# Altium footprint library Inductors THD.PcbLib: 25 footprints (part 3 of 3)
Each footprint in its own frame and in the unit in brackets; x right, y up, seen from the top. Pads: shape width x height; smd on the part's side, far side on the other; paste and mask are expansions set on the pad; w line width, h text height; cw(c..) or ccw(c..) is an arc to the next point about the centre after c.
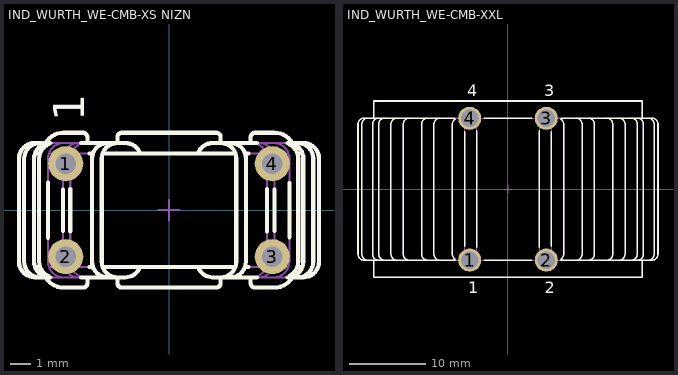
[diagram p2: the footprints below, top view; thin cyan lines are the x and y axes]

## IND_WURTH_WE-CMB-XS NIZN [mm] "WURTH Common Mode Choke WE-CMB XS Series"
height 18
pads (4):
  round 1.7 hole 1: 1(-5,2.25) 2(-5,-2.25) 3(5,-2.25) 4(5,2.25)
Top Overlay:
  lines w0.2: -6.487,-2.75 -6.244,-2.75 ; -6.487,2.75 -6.244,2.75 ; -6.26,-3.25 cw(c-6.26,-2.5) -7.01,-2.5 -7.01,2.5 cw(c-6.26,2.5) -6.26,3.25 ; -5.854,-1.338 -5.854,1.338 ; -5.817,-3.196 cw(c-5.537,-2.5) -6.287,-2.5 -6.287,2.5 cw(c-5.537,2.5) -5.817,3.196 ; -5.78,-3.25 cw(c-5.78,-2.5) -6.53,-2.5 -6.53,2.5 cw(c-5.78,2.5) -5.78,3.25 ; -5.75,-3.25 -6.51,-3.25 ; -5.75,3.25 -6.51,3.25 ; -5.134,-1.007 -5.134,1.007 ; -4.78,-1.02 -4.78,1.02 ; -4.25,-3.25 -2.113,-3.25 ccw(c-2.113,-2.5) -1.406,-2.75 ; -4.25,3.25 -2.109,3.25 cw(c-2.109,2.5) -1.402,2.75 ; -3.95,3.25 -3.95,3.525 ccw(c-4.175,3.525) -4.175,3.75 -5.1,3.75 ccw(c-5.1,2.75) -5.966,3.25 -6.51,3.25 ; -3.854,-2.75 -3.679,-2.75 ; -3.854,2.75 -3.679,2.75 ; -3.212,-2.75 3.217,-2.75 ; -3.212,2.75 3.217,2.75 ; -2.972,-3.25 cw(c-2.972,-2.5) -3.722,-2.5 -3.722,2.5 cw(c-2.972,2.5) -2.972,3.25 ; -2.505,-3.25 cw(c-2.505,-2.5) -3.255,-2.5 -3.255,2.5 cw(c-2.505,2.5) -2.505,3.25 ; -2.5,3.25 -2.5,3.525 cw(c-2.275,3.525) -2.275,3.75 2.275,3.75 cw(c2.275,3.525) 2.5,3.525 2.5,3.25 3.95,3.25 3.95,3.525 cw(c4.175,3.525) 4.175,3.75 5.1,3.75 cw(c5.1,2.75) 5.966,3.25 6.51,3.25 ; 1.406,-2.75 ccw(c2.113,-2.5) 2.113,-3.25 4.25,-3.25 ; 1.406,2.75 cw(c2.113,2.5) 2.113,3.25 4.25,3.25 ; 2.505,-3.25 ccw(c2.505,-2.5) 3.255,-2.5 3.255,2.5 ; 2.509,3.25 cw(c2.509,2.5) 3.259,2.499 ; 2.972,-3.25 ccw(c2.972,-2.5) 3.722,-2.5 3.722,2.5 ; 2.976,3.25 cw(c2.976,2.5) 3.726,2.499 ; 3.683,-2.75 3.854,-2.75 ; 3.683,2.75 3.854,2.75 ; 4.75,-1.025 4.75,1.025 ; 5.103,-1.004 5.103,1.004 ; 5.749,-3.25 ccw(c5.749,-2.5) 6.499,-2.5 6.499,2.5 ; 5.75,-3.25 6.51,-3.25 ; 5.75,3.25 6.51,3.25 ; 5.754,3.25 cw(c5.754,2.5) 6.504,2.499 ; 5.824,-1.31 5.824,1.31 ; 5.843,3.173 cw(c5.512,2.5) 6.262,2.499 ; 5.849,-3.168 ccw(c5.507,-2.5) 6.257,-2.5 6.257,2.5 ; 6.219,-2.75 6.461,-2.75 ; 6.219,2.75 6.461,2.75 ; 6.23,-3.25 ccw(c6.23,-2.5) 6.98,-2.5 6.98,2.5 ; 6.234,3.25 cw(c6.234,2.5) 6.984,2.499 ; -6.51,-3.25 cw(c-6.51,-2.5) -7.26,-2.5 -7.26,2.5 cw(c-6.51,2.5) -6.51,3.25 ; -6.51,-3.25 -5.966,-3.25 ccw(c-5.1,-2.75) -5.1,-3.75 -4.175,-3.75 ccw(c-4.175,-3.525) -3.95,-3.525 -3.95,-3.25 -2.5,-3.25 -2.5,-3.525 ccw(c-2.275,-3.525) -2.305,-3.748 2.275,-3.75 ccw(c2.275,-3.525) 2.5,-3.525 2.5,-3.25 3.95,-3.25 3.95,-3.525 ccw(c4.175,-3.525) 4.175,-3.75 5.1,-3.75 ccw(c5.1,-2.75) 5.966,-3.25 6.51,-3.25 ; 6.51,-3.25 ccw(c6.51,-2.5) 7.26,-2.5 7.26,2.5 ccw(c6.51,2.5) 6.51,3.25
  text "1" at -4.1,4.3 h1.5
Mechanical 8:
  lines w0.1: -5.5,-2.25 -5,-2.25 ; -5.5,2.25 -5,2.25 ; -5,-2.75 -5,-2.25 ; -5,-1.75 -5,-2.25 ; -5,1.75 -5,2.25 ; -5,2.75 -5,2.25 ; -4.5,-2.25 -5,-2.25 ; -4.5,2.25 -5,2.25 ; -0.5,0 0,0 ; 0,-0.5 0,0 ; 0,0.5 0,0 ; 0.5,0 0,0 ; 4.5,-2.25 5,-2.25 ; 4.5,2.25 5,2.25 ; 5,-2.75 5,-2.25 ; 5,-1.75 5,-2.25 ; 5,1.75 5,2.25 ; 5,2.75 5,2.25 ; 5.5,-2.25 5,-2.25 ; 5.5,2.25 5,2.25
Mechanical 14:
  lines w0.1: -6.487,-2.75 -6.244,-2.75 ; -6.487,2.75 -6.244,2.75 ; -6.26,-3.25 cw(c-6.26,-2.5) -7.01,-2.5 -7.01,2.5 cw(c-6.26,2.5) -6.26,3.25 ; -5.811,-2.75 -5.091,-2.75 ; -5.811,2.75 -5.091,2.75 ; -5.78,-3.25 cw(c-5.78,-2.5) -6.53,-2.5 -6.53,2.5 cw(c-5.78,2.5) -5.78,3.25 ; -5.537,-3.25 cw(c-5.537,-2.5) -6.287,-2.5 -6.287,2.5 cw(c-5.537,2.5) -5.537,3.25 ; -5.104,-3.25 cw(c-5.104,-2.5) -5.854,-2.5 -5.854,2.5 cw(c-5.104,2.5) -5.104,3.25 ; -4.737,-2.75 -3.679,-2.75 ; -4.737,2.75 -3.679,2.75 ; -4.384,-3.25 cw(c-4.384,-2.5) -5.134,-2.5 -5.134,2.5 cw(c-4.384,2.5) -4.384,3.25 ; -4.03,-3.25 cw(c-4.03,-2.5) -4.78,-2.5 -4.78,2.5 cw(c-4.03,2.5) -4.03,3.25 ; -3.95,3.25 -3.95,3.525 ccw(c-4.175,3.525) -4.175,3.75 -5.1,3.75 ccw(c-5.1,2.75) -5.966,3.25 -6.51,3.25 ; -3.212,-2.75 3.217,-2.75 ; -3.212,2.75 3.217,2.75 ; -2.972,-3.25 cw(c-2.972,-2.5) -3.722,-2.5 -3.722,2.5 cw(c-2.972,2.5) -2.972,3.25 ; -2.505,-3.25 cw(c-2.505,-2.5) -3.255,-2.5 -3.255,2.5 cw(c-2.505,2.5) -2.505,3.25 ; -2.5,3.25 -2.5,3.525 cw(c-2.275,3.525) -2.275,3.75 2.275,3.75 cw(c2.275,3.525) 2.5,3.525 2.5,3.25 3.95,3.25 3.95,3.525 cw(c4.175,3.525) 4.175,3.75 5.1,3.75 cw(c5.1,2.75) 5.966,3.25 6.51,3.25 ; -1.406,-2.75 cw(c-2.113,-2.5) -2.113,-3.25 -6.51,-3.25 ; -1.402,2.75 ccw(c-2.109,2.5) -2.109,3.25 -6.51,3.25 ; 1.406,-2.75 ccw(c2.113,-2.5) 2.113,-3.25 6.51,-3.25 ; 1.406,2.75 cw(c2.113,2.5) 2.113,3.25 6.51,3.25 ; 2.505,-3.25 ccw(c2.505,-2.5) 3.255,-2.5 3.255,2.5 ; 2.509,3.25 cw(c2.509,2.5) 3.259,2.499 ; 2.972,-3.25 ccw(c2.972,-2.5) 3.722,-2.5 3.722,2.5 ; 2.976,3.25 cw(c2.976,2.5) 3.726,2.499 ; 3.683,-2.75 4.711,-2.75 ; 3.683,2.75 4.711,2.75 ; 4,-3.25 ccw(c4,-2.5) 4.75,-2.5 4.75,2.5 ; 4.004,3.25 cw(c4.004,2.5) 4.754,2.499 ; 4.353,-3.25 ccw(c4.353,-2.5) 5.103,-2.5 5.103,2.5 ; 4.358,3.25 cw(c4.358,2.5) 5.108,2.499 ; 5.065,-2.75 5.786,-2.75 ; 5.065,2.75 5.786,2.75 ; 5.074,-3.25 ccw(c5.074,-2.5) 5.824,-2.5 5.824,2.5 ; 5.079,3.25 cw(c5.079,2.5) 5.829,2.499 ; 5.507,-3.25 ccw(c5.507,-2.5) 6.257,-2.5 6.257,2.5 ; 5.512,3.25 cw(c5.512,2.5) 6.262,2.499 ; 5.749,-3.25 ccw(c5.749,-2.5) 6.499,-2.5 6.499,2.5 ; 5.754,3.25 cw(c5.754,2.5) 6.504,2.499 ; 6.219,-2.75 6.461,-2.75 ; 6.219,2.75 6.461,2.75 ; 6.23,-3.25 ccw(c6.23,-2.5) 6.98,-2.5 6.98,2.5 ; 6.234,3.25 cw(c6.234,2.5) 6.984,2.499 ; -6.51,-3.25 cw(c-6.51,-2.5) -7.26,-2.5 -7.26,2.5 cw(c-6.51,2.5) -6.51,3.25 ; -6.51,-3.25 -5.966,-3.25 ccw(c-5.1,-2.75) -5.1,-3.75 -4.175,-3.75 ccw(c-4.175,-3.525) -3.95,-3.525 -3.95,-3.25 -2.5,-3.25 -2.5,-3.525 ccw(c-2.275,-3.525) -2.305,-3.748 2.275,-3.75 ccw(c2.275,-3.525) 2.5,-3.525 2.5,-3.25 3.95,-3.25 3.95,-3.525 ccw(c4.175,-3.525) 4.175,-3.75 5.1,-3.75 ccw(c5.1,-2.75) 5.966,-3.25 6.51,-3.25 ; 6.51,-3.25 ccw(c6.51,-2.5) 7.26,-2.5 7.26,2.5 ccw(c6.51,2.5) 6.51,3.25
  text "1" at -4.1,4.3 h1.5
3D body "IND_WURTH_WE-CMB-XS NIZN.stp": height 17.5, standoff -2.15, extent -7.26,-3.75 7.26,3.75

## IND_WURTH_WE-CMB-XXL [mm] "WURTH Common Mode Choke WE-CMB XXL Series"
height 43
pads (4):
  round 3 hole 2.3: 1(-5,-9.25) 2(5,-9.25) 3(5,9.25) 4(-5,9.25)
Top Overlay:
  lines w0.2: -19.062,8.47 cw(c-18.262,8.47) -18.262,9.27 ; -19.061,8.509 -19.062,-8.47 ccw(c-18.262,-8.47) -18.262,-9.27 ; -17.662,8.47 cw(c-16.862,8.47) -16.862,9.27 ; -17.661,8.509 -17.662,-8.47 ccw(c-16.862,-8.47) -16.862,-9.27 ; -17.5,-9.27 -17.5,-11.5 17.5,-11.5 17.5,-9.27 ; -17.5,9.27 -17.5,11.5 17.5,11.5 17.5,9.27 ; -16.862,8.47 cw(c-16.062,8.47) -16.062,9.27 ; -16.861,8.509 -16.862,-8.47 ccw(c-16.062,-8.47) -16.062,-9.27 ; -15.262,8.47 cw(c-14.462,8.47) -14.462,9.27 ; -15.261,8.509 -15.262,-8.47 ccw(c-14.462,-8.47) -14.462,-9.27 ; -9.662,8.47 cw(c-8.862,8.47) -8.862,9.27 ; -9.661,8.509 -9.662,-8.47 ccw(c-8.862,-8.47) -8.862,-9.27 ; -6.9,-9.27 -18.762,-9.27 ; -6.9,9.27 -18.762,9.27 ; -5.662,-7.469 -5.661,7.469 ; -4.062,-7.598 -4.061,7.598 ; -3.1,-9.27 3.1,-9.27 ; -3.1,9.27 3.1,9.27 ; 4.062,-7.598 4.061,7.598 ; 5.662,-7.469 5.661,7.469 ; 6.9,-9.27 18.762,-9.27 ; 6.9,9.27 18.762,9.27 ; 8.862,-9.27 ccw(c8.862,-8.47) 9.662,-8.47 9.661,8.509 ; 8.862,9.27 cw(c8.862,8.47) 9.662,8.47 ; 14.462,-9.27 ccw(c14.462,-8.47) 15.262,-8.47 15.261,8.509 ; 14.462,9.27 cw(c14.462,8.47) 15.262,8.47 ; 16.062,-9.27 ccw(c16.062,-8.47) 16.862,-8.47 16.861,8.509 ; 16.062,9.27 cw(c16.062,8.47) 16.862,8.47 ; 16.862,-9.27 ccw(c16.862,-8.47) 17.662,-8.47 17.661,8.509 ; 16.862,9.27 cw(c16.862,8.47) 17.662,8.47 ; 18.262,-9.27 ccw(c18.262,-8.47) 19.062,-8.47 19.061,8.509 ; 18.262,9.27 cw(c18.262,8.47) 19.062,8.47 ; -19.562,-8.47 ccw(c-18.762,-8.47) -18.762,-9.27 ; -19.562,-8.47 ccw(c-18.762,-8.47) -18.762,-9.27 ; -19.562,-8.47 -19.561,8.509 -19.562,-8.47 ; -18.762,9.27 ccw(c-18.762,8.47) -19.562,8.47 cw(c-18.762,8.47) -18.762,9.27 ; -13.662,-8.47 ccw(c-12.862,-8.47) -12.862,-9.27 cw(c-12.862,-8.47) -13.662,-8.47 ; -13.662,-8.47 -13.661,8.509 -13.662,-8.47 ; -11.262,-8.47 ccw(c-10.462,-8.47) -10.462,-9.27 ; -11.262,-8.47 ccw(c-10.462,-8.47) -10.462,-9.27 ; -11.262,-8.47 ccw(c-10.462,-8.47) -10.462,-9.27 ; -11.262,-8.47 -11.261,8.509 ; -11.262,-8.47 -11.261,8.509 ; -11.262,-8.47 -11.261,8.509 ; -11.262,8.47 cw(c-10.462,8.47) -10.462,9.27 ; -11.262,8.47 cw(c-10.462,8.47) -10.462,9.27 ; -11.262,8.47 cw(c-10.462,8.47) -10.462,9.27 ; -7.262,-8.47 ccw(c-6.462,-8.47) -6.897,-9.142 ; -7.262,-8.47 ccw(c-6.462,-8.47) -6.897,-9.142 ; -7.262,-8.47 ccw(c-6.462,-8.47) -6.897,-9.142 ; -7.262,-8.47 -7.261,8.509 ; -7.262,-8.47 -7.261,8.509 ; -7.262,-8.47 -7.261,8.509 ; -7.262,8.47 cw(c-6.462,8.47) -6.897,9.142 ; -7.262,8.47 cw(c-6.462,8.47) -6.897,9.142 ; -7.262,8.47 cw(c-6.462,8.47) -6.897,9.142 ; 6.897,-9.142 ccw(c6.462,-8.47) 7.262,-8.47 ; 6.897,-9.142 ccw(c6.462,-8.47) 7.262,-8.47 ; 6.897,-9.142 ccw(c6.462,-8.47) 7.262,-8.47 ; 6.897,9.142 cw(c6.462,8.47) 7.262,8.47 ; 6.897,9.142 cw(c6.462,8.47) 7.262,8.47 ; 6.897,9.142 cw(c6.462,8.47) 7.262,8.47 ; 7.261,8.509 7.262,-8.47 ; 7.261,8.509 7.262,-8.47 ; 7.261,8.509 7.262,-8.47 ; 10.462,-9.27 ccw(c10.462,-8.47) 11.262,-8.47 ; 10.462,-9.27 ccw(c10.462,-8.47) 11.262,-8.47 ; 10.462,-9.27 ccw(c10.462,-8.47) 11.262,-8.47 ; 10.462,9.27 cw(c10.462,8.47) 11.262,8.47 ; 10.462,9.27 cw(c10.462,8.47) 11.262,8.47 ; 10.462,9.27 cw(c10.462,8.47) 11.262,8.47 ; 11.261,8.509 11.262,-8.47 ; 11.261,8.509 11.262,-8.47 ; 11.261,8.509 11.262,-8.47 ; 13.662,-8.47 cw(c12.862,-8.47) 12.862,-9.27 ccw(c12.862,-8.47) 13.662,-8.47 ; 13.662,-8.47 13.661,8.509 13.662,-8.47 ; 18.762,-9.27 ccw(c18.762,-8.47) 19.562,-8.47 ; 18.762,-9.27 ccw(c18.762,-8.47) 19.562,-8.47 ; 18.762,9.27 cw(c18.762,8.47) 19.562,8.47 ccw(c18.762,8.47) 18.762,9.27 ; 19.562,-8.47 19.561,8.509 19.562,-8.47 ; -13.662,8.47 cw(c-12.862,8.47) -12.862,9.27 ccw(c-12.862,8.47) -13.662,8.47 ; 12.862,9.27 cw(c12.862,8.47) 13.662,8.47 ccw(c12.862,8.47) 12.862,9.27
  text "1" at -5.2,-13.6 h1.5
  text "2" at 4.8,-13.6 h1.5
  text "3" at 4.7,12.15 h1.5
  text "4" at -5.3,12.15 h1.5
Mechanical 8:
  lines w0.1: -5.5,-9.25 -5,-9.25 ; -5.5,9.25 -5,9.25 ; -5,-9.75 -5,-9.25 ; -5,-8.75 -5,-9.25 ; -5,8.75 -5,9.25 ; -5,9.75 -5,9.25 ; -4.5,-9.25 -5,-9.25 ; -4.5,9.25 -5,9.25 ; -0.5,0 0,0 ; 0,-0.5 0,0 ; 0,0.5 0,0 ; 0.5,0 0,0 ; 4.5,-9.25 5,-9.25 ; 4.5,9.25 5,9.25 ; 5,-9.75 5,-9.25 ; 5,-8.75 5,-9.25 ; 5,8.75 5,9.25 ; 5,9.75 5,9.25 ; 5.5,-9.25 5,-9.25 ; 5.5,9.25 5,9.25
Mechanical 14:
  lines w0.1: -19.062,8.47 cw(c-18.262,8.47) -18.262,9.27 ; -19.061,8.509 -19.062,-8.47 ccw(c-18.262,-8.47) -18.262,-9.27 ; -17.662,8.47 cw(c-16.862,8.47) -16.862,9.27 ; -17.661,8.509 -17.662,-8.47 ccw(c-16.862,-8.47) -16.862,-9.27 ; -17.5,-9.27 -17.5,-11.5 17.5,-11.5 17.5,-9.27 ; -17.5,9.27 -17.5,11.5 17.5,11.5 17.5,9.27 ; -16.862,8.47 cw(c-16.062,8.47) -16.062,9.27 ; -16.861,8.509 -16.862,-8.47 ccw(c-16.062,-8.47) -16.062,-9.27 ; -15.262,8.47 cw(c-14.462,8.47) -14.462,9.27 ; -15.261,8.509 -15.262,-8.47 ccw(c-14.462,-8.47) -14.462,-9.27 ; -9.662,8.47 cw(c-8.862,8.47) -8.862,9.27 ; -9.661,8.509 -9.662,-8.47 ccw(c-8.862,-8.47) -8.862,-9.27 ; -5.662,8.47 cw(c-4.862,8.47) -4.862,9.27 cw(c-4.861,8.47) -4.061,8.47 ; -5.661,8.509 -5.662,-8.47 ccw(c-4.862,-8.47) -4.862,-9.27 ccw(c-4.861,-8.47) -4.061,-8.47 -4.061,8.509 ; 4.061,-8.47 ccw(c4.861,-8.47) 4.861,-9.27 ccw(c4.862,-8.47) 5.662,-8.47 5.661,8.509 ; 4.061,8.47 cw(c4.861,8.47) 4.861,9.27 cw(c4.862,8.47) 5.662,8.47 ; 4.061,8.509 4.062,-8.47 ; 8.862,-9.27 ccw(c8.862,-8.47) 9.662,-8.47 9.661,8.509 ; 8.862,9.27 cw(c8.862,8.47) 9.662,8.47 ; 14.462,-9.27 ccw(c14.462,-8.47) 15.262,-8.47 15.261,8.509 ; 14.462,9.27 cw(c14.462,8.47) 15.262,8.47 ; 16.062,-9.27 ccw(c16.062,-8.47) 16.862,-8.47 16.861,8.509 ; 16.062,9.27 cw(c16.062,8.47) 16.862,8.47 ; 16.862,-9.27 ccw(c16.862,-8.47) 17.662,-8.47 17.661,8.509 ; 16.862,9.27 cw(c16.862,8.47) 17.662,8.47 ; 18.262,-9.27 ccw(c18.262,-8.47) 19.062,-8.47 19.061,8.509 ; 18.262,9.27 cw(c18.262,8.47) 19.062,8.47 ; -19.562,-8.47 ccw(c-18.762,-8.47) -18.762,-9.27 ; -19.562,-8.47 ccw(c-18.762,-8.47) -18.762,-9.27 ; -19.562,-8.47 -19.561,8.509 -19.562,-8.47 ; -18.762,-9.27 18.762,-9.27 ; -18.762,9.27 ccw(c-18.762,8.47) -19.562,8.47 cw(c-18.762,8.47) -18.762,9.27 ; -18.762,9.27 18.762,9.27 ; -13.662,-8.47 ccw(c-12.862,-8.47) -12.862,-9.27 cw(c-12.862,-8.47) -13.662,-8.47 ; -13.662,-8.47 -13.661,8.509 -13.662,-8.47 ; -11.262,-8.47 ccw(c-10.462,-8.47) -10.462,-9.27 ; -11.262,-8.47 ccw(c-10.462,-8.47) -10.462,-9.27 ; -11.262,-8.47 ccw(c-10.462,-8.47) -10.462,-9.27 ; -11.262,-8.47 -11.261,8.509 ; -11.262,-8.47 -11.261,8.509 ; -11.262,-8.47 -11.261,8.509 ; -11.262,8.47 cw(c-10.462,8.47) -10.462,9.27 ; -11.262,8.47 cw(c-10.462,8.47) -10.462,9.27 ; -11.262,8.47 cw(c-10.462,8.47) -10.462,9.27 ; -7.262,-8.47 ccw(c-6.462,-8.47) -6.462,-9.27 ; -7.262,-8.47 ccw(c-6.462,-8.47) -6.462,-9.27 ; -7.262,-8.47 ccw(c-6.462,-8.47) -6.462,-9.27 ; -7.262,-8.47 -7.261,8.509 ; -7.262,-8.47 -7.261,8.509 ; -7.262,-8.47 -7.261,8.509 ; -7.262,8.47 cw(c-6.462,8.47) -6.462,9.27 ; -7.262,8.47 cw(c-6.462,8.47) -6.462,9.27 ; -7.262,8.47 cw(c-6.462,8.47) -6.462,9.27 ; 6.462,-9.27 ccw(c6.462,-8.47) 7.262,-8.47 ; 6.462,-9.27 ccw(c6.462,-8.47) 7.262,-8.47 ; 6.462,-9.27 ccw(c6.462,-8.47) 7.262,-8.47 ; 6.462,9.27 cw(c6.462,8.47) 7.262,8.47 ; 6.462,9.27 cw(c6.462,8.47) 7.262,8.47 ; 6.462,9.27 cw(c6.462,8.47) 7.262,8.47 ; 7.261,8.509 7.262,-8.47 ; 7.261,8.509 7.262,-8.47 ; 7.261,8.509 7.262,-8.47 ; 10.462,-9.27 ccw(c10.462,-8.47) 11.262,-8.47 ; 10.462,-9.27 ccw(c10.462,-8.47) 11.262,-8.47 ; 10.462,-9.27 ccw(c10.462,-8.47) 11.262,-8.47 ; 10.462,9.27 cw(c10.462,8.47) 11.262,8.47 ; 10.462,9.27 cw(c10.462,8.47) 11.262,8.47 ; 10.462,9.27 cw(c10.462,8.47) 11.262,8.47 ; 11.261,8.509 11.262,-8.47 ; 11.261,8.509 11.262,-8.47 ; 11.261,8.509 11.262,-8.47 ; 13.662,-8.47 cw(c12.862,-8.47) 12.862,-9.27 ccw(c12.862,-8.47) 13.662,-8.47 ; 13.662,-8.47 13.661,8.509 13.662,-8.47 ; 18.762,-9.27 ccw(c18.762,-8.47) 19.562,-8.47 ; 18.762,-9.27 ccw(c18.762,-8.47) 19.562,-8.47 ; 18.762,9.27 cw(c18.762,8.47) 19.562,8.47 ccw(c18.762,8.47) 18.762,9.27 ; 19.562,-8.47 19.561,8.509 19.562,-8.47 ; -13.662,8.47 cw(c-12.862,8.47) -12.862,9.27 ccw(c-12.862,8.47) -13.662,8.47 ; 12.862,9.27 cw(c12.862,8.47) 13.662,8.47 ccw(c12.862,8.47) 12.862,9.27
  text "1" at -5.2,-13.6 h1.5
  text "2" at 4.8,-13.6 h1.5
  text "3" at 4.7,12.15 h1.5
  text "4" at -5.3,12.15 h1.5
3D body "IND_WURTH_WE-CMB-XXL.stp": height 39.4, standoff -5, extent -19.6,-11.5 19.6,11.5